# EAGLE library part LT8500 (library Strutz Electronic Industries)
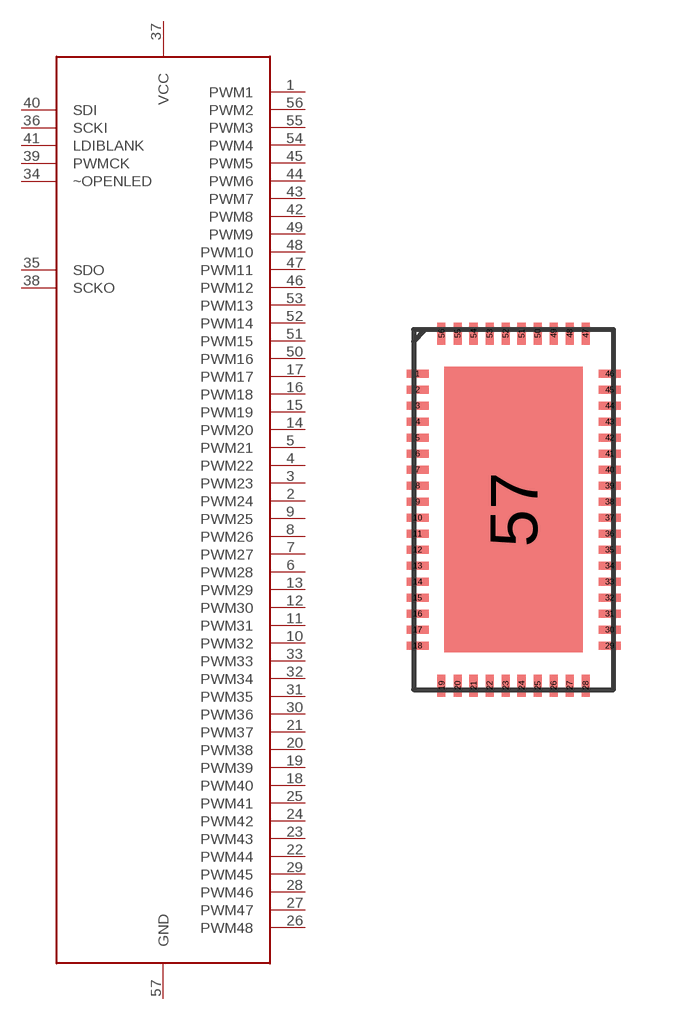
[diagram p41: symbol with the pads of QFN-56; footprint QFN-56]

Designator prefix -

## LT8500  [QFN-56]
1  PWM1
2  PWM24
3  PWM23
4  PWM22
5  PWM21
6  PWM28
7  PWM27
8  PWM26
9  PWM25
10  PWM32
11  PWM31
12  PWM30
13  PWM29
14  PWM20
15  PWM19
16  PWM18
17  PWM17
18  PWM40
19  PWM39
20  PWM38
21  PWM37
22  PWM44
23  PWM43
24  PWM42
25  PWM41
26  PWM48
27  PWM47
28  PWM46
29  PWM45
30  PWM36
31  PWM35
32  PWM34
33  PWM33
34  ~OPENLED
35  SDO
36  SCKI
37  VCC
38  SCKO
39  PWMCK
40  SDI
41  LDIBLANK
42  PWM8
43  PWM7
44  PWM6
45  PWM5
46  PWM12
47  PWM11
48  PWM10
49  PWM9
50  PWM16
51  PWM15
52  PWM14
53  PWM13
54  PWM4
55  PWM3
56  PWM2
57  GND

## Footprint QFN-56 (pad centres in mm)
smd 0.55 x 0.2: 1 -2.4,3.4; 2 -2.4,3; 3 -2.4,2.6; 4 -2.4,2.2; 5 -2.4,1.8; 6 -2.4,1.4; 7 -2.4,1; 8 -2.4,0.6; 9 -2.4,0.2; 10 -2.4,-0.2; 11 -2.4,-0.6; 12 -2.4,-1; 13 -2.4,-1.4; 14 -2.4,-1.8; 15 -2.4,-2.2; 16 -2.4,-2.6; 17 -2.4,-3; 18 -2.4,-3.4; 29 2.4,-3.4; 30 2.4,-3; 31 2.4,-2.6; 32 2.4,-2.2; 33 2.4,-1.8; 34 2.4,-1.4; 35 2.4,-1; 36 2.4,-0.6; 37 2.4,-0.2; 38 2.4,0.2; 39 2.4,0.6; 40 2.4,1; 41 2.4,1.4; 42 2.4,1.8; 43 2.4,2.2; 44 2.4,2.6; 45 2.4,3; 46 2.4,3.4
smd 0.2 x 0.55: 19 -1.8,-4.4; 20 -1.4,-4.4; 21 -1,-4.4; 22 -0.6,-4.4; 23 -0.2,-4.4; 24 0.2,-4.4; 25 0.6,-4.4; 26 1,-4.4; 27 1.4,-4.4; 28 1.8,-4.4; 47 1.8,4.4; 48 1.4,4.4; 49 1,4.4; 50 0.6,4.4; 51 0.2,4.4; 52 -0.2,4.4; 53 -0.6,4.4; 54 -1,4.4; 55 -1.4,4.4; 56 -1.8,4.4
smd 3.45 x 7.13: 57 0,0